# Altium schematic symbol library 标记与标识.SchLib: 2 symbols
Pins are listed as number, name and electrical type; pins without a type are passive.

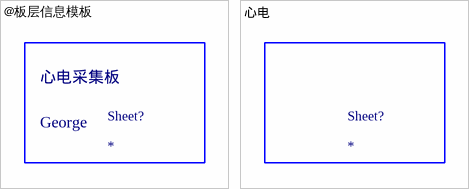
[diagram p0: symbols @板层信息模板 to 心电]

## @板层信息模板
designator Sheet?
text: 心电采集板; George

## 心电
designator Sheet?
footprint 心电V1.0.1